# Altium footprint library PCB1.PcbLib: 19 footprints (part 2 of 2)
Each footprint in its own frame and in the unit in brackets; x right, y up, seen from the top. Pads: shape width x height; smd on the part's side, far side on the other; paste and mask are expansions set on the pad; w line width, h text height; cw(c..) or ccw(c..) is an arc to the next point about the centre after c.
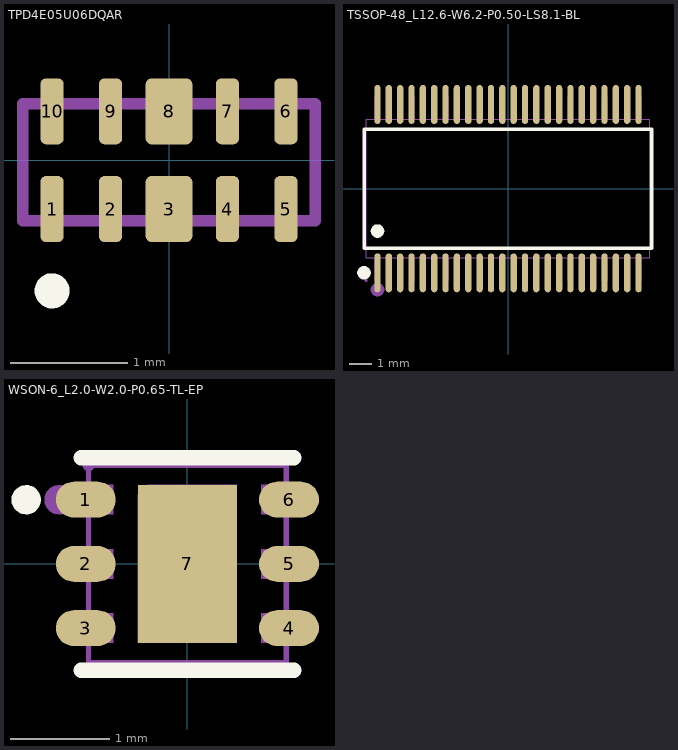
[diagram p1: the footprints below, top view; thin cyan lines are the x and y axes]

## TPD4E05U06DQAR [mm] "TVS 5V ESD"
pads (10):
  rrect50% 0.2x0.565 smd mask+0.07: 1(-1,-0.417) 2(-0.5,-0.417) 4(0.5,-0.417) 5(1,-0.417) 6(1,0.417) 7(0.5,0.417) 9(-0.5,0.417) 10(-1,0.417)
  rrect25% 0.4x0.565 smd paste-0.02: 3(0,-0.417) 8(0,0.417)
Top Overlay:
  circle w0.15: c-1,-1.118 r0.075
Top Assembly:
  lines w0.1: -1.25,-0.517 1.25,-0.517 1.25,0.483 -1.25,0.483 -1.25,-0.517

## TSSOP-48_L12.6-W6.2-P0.50-LS8.1-BL [mil]
pads (48):
  oval 11x67.5 smd: 1(-226.4,-146) 2(-206.7,-146) 3(-187,-146) 4(-167.3,-146) 5(-147.6,-146) 6(-127.9,-146) 7(-108.3,-146) 8(-88.6,-146) 9(-68.9,-146) 10(-49.2,-146) 11(-29.5,-146) 12(-9.8,-146) 13(9.8,-146) 14(29.5,-146) 15(49.2,-146) 16(68.9,-146) 17(88.6,-146) 18(108.3,-146) 19(128,-146) 20(147.6,-146) 21(167.3,-146) 22(187,-146) 23(206.7,-146) 24(226.4,-146) 25(226.4,146) 26(206.7,146) 27(187,146) 28(167.3,146) 29(147.6,146) 30(128,146) 31(108.3,146) 32(88.6,146) 33(68.9,146) 34(49.2,146) 35(29.5,146) 36(9.8,146) 37(-9.8,146) 38(-29.5,146) 39(-49.2,146) 40(-68.9,146) 41(-88.6,146) 42(-108.3,146) 43(-127.9,146) 44(-147.6,146) 45(-167.3,146) 46(-187,146) 47(-206.7,146) 48(-226.4,146)
Top Overlay:
  lines w6: -249.1,-103.2 -249.1,103.2 249.1,103.2 249.1,-103.2 -249.1,-103.2
  lines w11.8: -255.6,-146 -255.2,-148 -254.2,-149.8 -252.6,-151.1 -250.7,-151.8 -248.7,-151.8 -246.7,-151.1 -245.2,-149.8 -244.1,-148 -243.8,-146 -244.1,-143.9 -245.2,-142.2 -246.7,-140.8 -248.7,-140.1 -250.7,-140.1 -252.6,-140.8 -254.2,-142.2 -255.2,-143.9 -255.6,-146 ; -232.3,-73.6 -231.9,-75.6 -230.9,-77.4 -229.3,-78.7 -227.4,-79.4 -225.3,-79.4 -223.4,-78.7 -221.8,-77.4 -220.8,-75.6 -220.5,-73.6 -220.8,-71.5 -221.8,-69.8 -223.4,-68.5 -225.3,-67.7 -227.4,-67.7 -229.3,-68.5 -230.9,-69.8 -231.9,-71.5 -232.3,-73.6
Mechanical 2:
  lines w11.8: -232.3,-175.2 -231.9,-177.2 -230.9,-179 -229.3,-180.3 -227.4,-181 -225.3,-181 -223.4,-180.3 -221.8,-179 -220.8,-177.2 -220.5,-175.2 -220.8,-173.2 -221.8,-171.4 -223.4,-170.1 -225.3,-169.4 -227.4,-169.4 -229.3,-170.1 -230.9,-171.4 -231.9,-173.2 -232.3,-175.2
Mechanical 6:
  lines w2: -246.1,-120.1 -246.1,120.1 246.1,120.1 246.1,-120.1 -246.1,-120.1
Mechanical 7:
  drawing of 48 lines, arcs and shapes, not listed
Mechanical 8:
  region: -243.7,-159.4 -244.1,-160.7 -245.1,-161.6 -246.4,-161.8 -247.6,-161.2 -248.3,-160.1 -248.3,-158.8 -247.6,-157.7 -246.4,-157.1 -245.1,-157.3 -244.1,-158.2
Mechanical 9:
  drawing of 48 lines, arcs and shapes, not listed

## WSON-6_L2.0-W2.0-P0.65-TL-EP [mil]
pads (7):
  oval 23.9x14.3 smd: 1(-40.5,25.6) 2(-40.5,0) 3(-40.5,-25.6) 4(40.5,-25.6) 5(40.5,0) 6(40.5,25.6)
  rect 39.4x63 smd: 7(0,0)
Top Overlay:
  lines w5.9: -67.1,24.9 -67.1,26.3 -66.5,27.5 -65.3,28.3 -63.9,28.5 -62.6,28 -61.6,26.9 -61.3,25.6 -61.6,24.2 -62.6,23.1 -63.9,22.6 -65.3,22.8 -66.5,23.6 -67.1,24.9
  lines w6: -42.4,-42.4 42.4,-42.4 ; -42.4,42.3 42.4,42.3
Mechanical 2:
  lines w5.9: -54,24.9 -54,26.3 -53.4,27.5 -52.2,28.3 -50.8,28.5 -49.5,28 -48.6,26.9 -48.2,25.6 -48.6,24.2 -49.5,23.1 -50.8,22.6 -52.2,22.8 -53.4,23.6 -54,24.9
Mechanical 6:
  lines w2: -39.4,-39.4 -39.4,39.3 39.4,39.3 39.4,-39.4 -39.4,-39.4
Mechanical 8:
  region: -37,39.3 -37.4,38.1 -38.4,37.2 -39.7,37 -40.9,37.6 -41.6,38.7 -41.6,40 -40.9,41.1 -39.7,41.7 -38.4,41.5 -37.4,40.6
Mechanical 9:
  region: -15.7,31.5 19.7,31.5 19.7,-31.5 -19.7,-31.5 -19.7,27.5
  region: 39.4,31.5 29.5,31.5 29.5,19.7 39.4,19.7
  region: 39.4,5.9 29.5,5.9 29.5,-5.9 39.4,-5.9
  region: 39.4,-19.7 29.5,-19.7 29.5,-31.5 39.4,-31.5
  region: -39.4,-19.7 -29.5,-19.7 -29.5,-31.5 -39.4,-31.5
  region: -39.4,5.9 -29.5,5.9 -29.5,-5.9 -39.4,-5.9
  region: -39.4,31.5 -29.5,31.5 -29.5,19.7 -39.4,19.7